# EAGLE library part IM920 (library IM920)
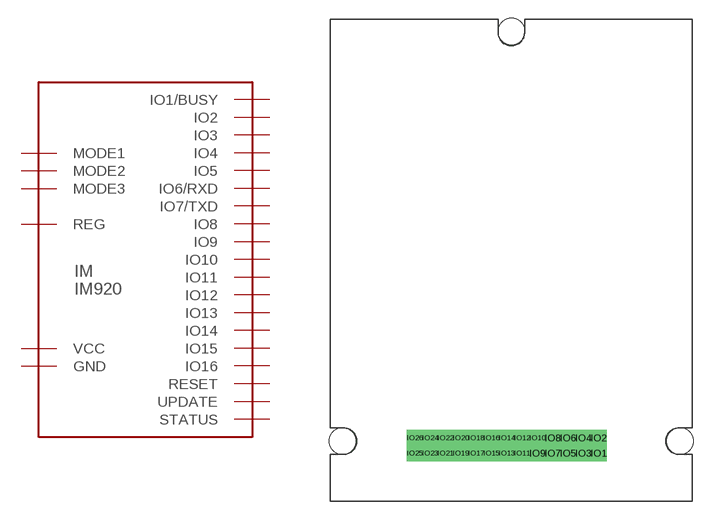
[diagram p0: symbol with the pads of IM920_BOARD; footprint IM920_BOARD]

Designator prefix IM

## IM920IM920_BOARD  [IM920_BOARD]
IO1  IO1/BUSY
IO2  IO2
IO3  IO3
IO4  IO4
IO5  IO5
IO6  IO6/RXD
IO7  IO7/TXD
IO8  IO8
IO9  IO9
IO10  IO10
IO11  IO11
IO12  IO12
IO13  IO13
IO14  IO14
IO15  IO15
IO16  IO16
IO17  MODE1
IO18  MODE2
IO19  MODE3
IO20  UPDATE
IO21  STATUS
IO22  REG
IO23  VCC
IO24  GND
IO25  RESET

## Footprint IM920_BOARD (pad centres in mm)
drill 0.8 pad 0.813 square: IO1 7.24,-17.27; IO2 7.24,-16; IO3 5.97,-17.27; IO4 5.97,-16; IO5 4.7,-17.27; IO6 4.7,-16; IO7 3.43,-17.27; IO8 3.43,-16; IO9 2.16,-17.27; IO10 2.16,-16; IO11 0.89,-17.27; IO12 0.89,-16; IO13 -0.38,-17.27; IO14 -0.38,-16; IO15 -1.65,-17.27; IO16 -1.65,-16; IO17 -2.92,-17.27; IO18 -2.92,-16; IO19 -4.19,-17.27; IO20 -4.19,-16; IO21 -5.46,-17.27; IO22 -5.46,-16; IO23 -6.73,-17.27; IO24 -6.73,-16; IO25 -8,-17.27; IO26 -8,-16
hole 2.2 at -14,-16.27
hole 2.2 at 14,-16.27
hole 2.2 at 0,17.73